# Altium footprint library Package_DIP.PcbLib: 281 footprints (part 5 of 18)
Each footprint in its own frame and in the unit in brackets; x right, y up, seen from the top. Pads: shape width x height; smd on the part's side, far side on the other; paste and mask are expansions set on the pad; w line width, h text height; cw(c..) or ccw(c..) is an arc to the next point about the centre after c.
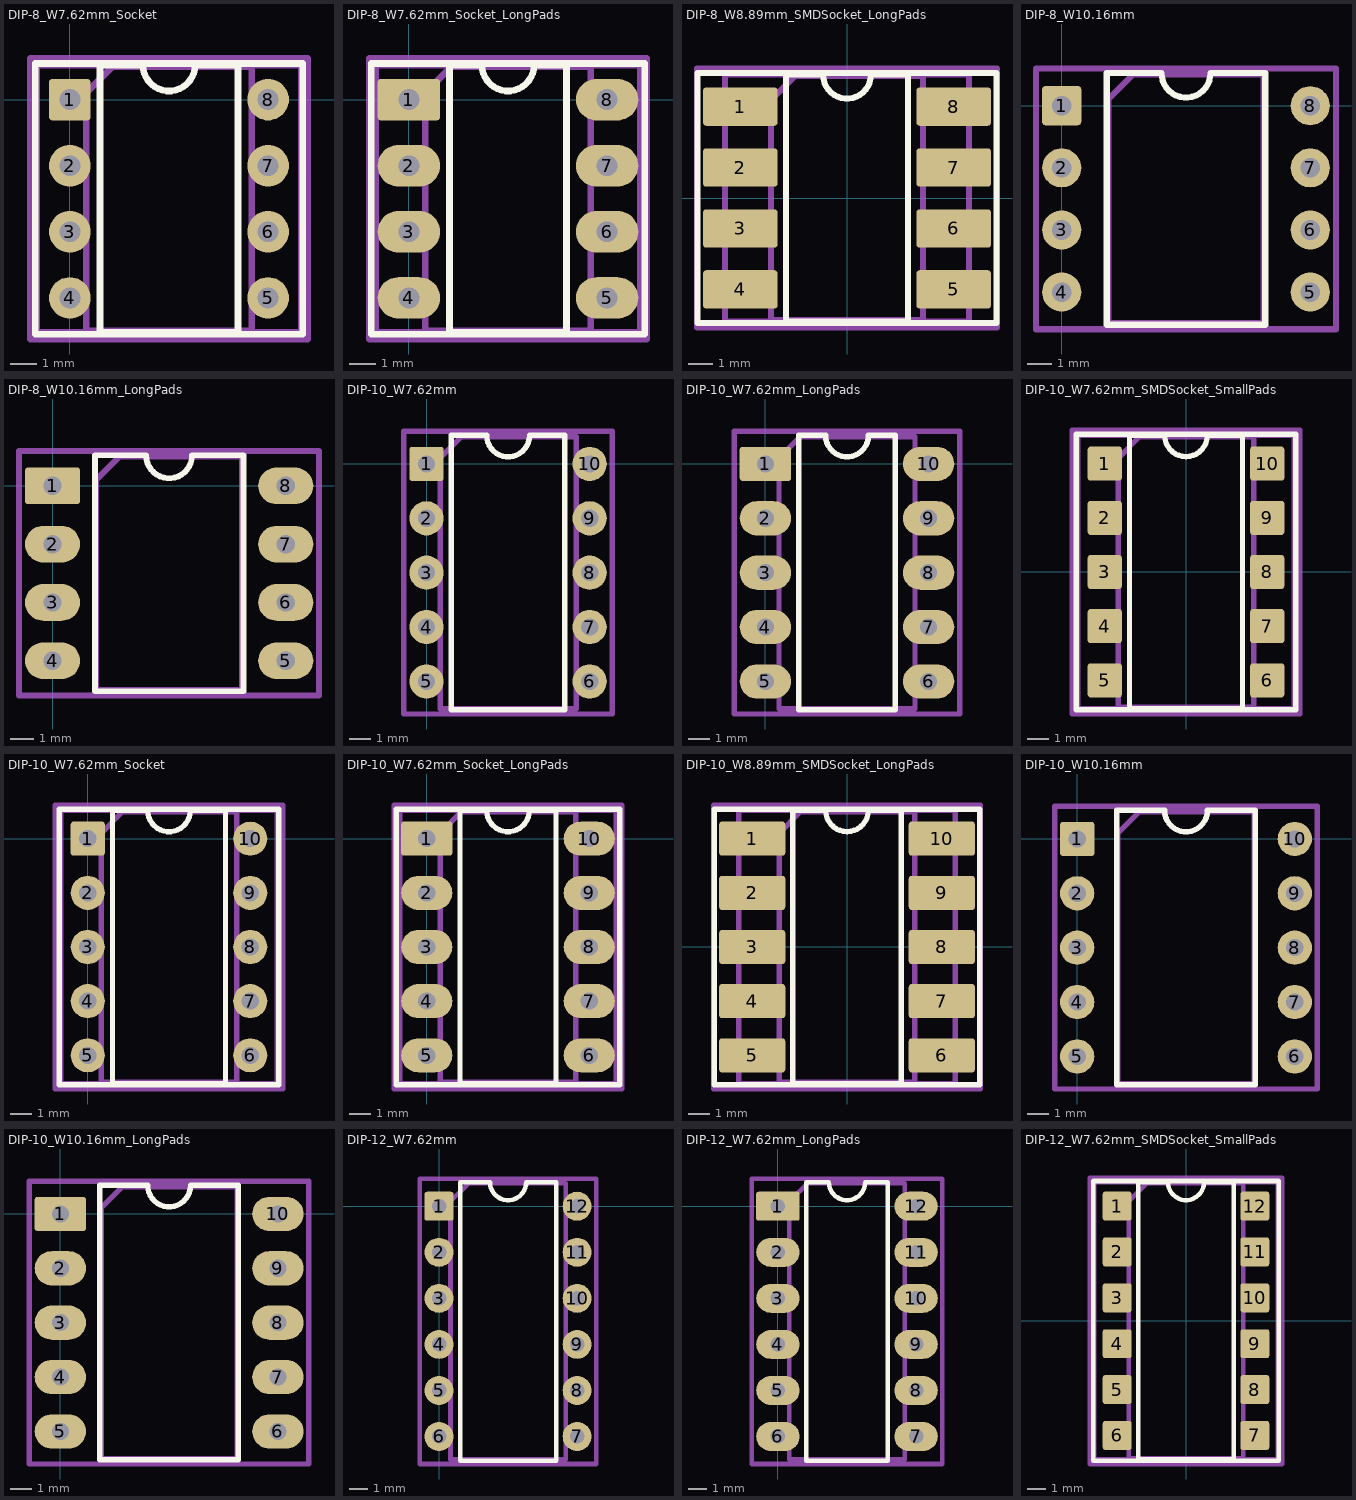
[diagram p4: the footprints below, top view; thin cyan lines are the x and y axes]

## DIP-8_W7.62mm_Socket [mm]
pads (8):
  rrect16% 1.6x1.6 hole 0.8: 1(0,0)
  round 1.6 hole 0.8: 2(0,-2.54) 3(0,-5.08) 4(0,-7.62) 5(7.62,-7.62) 6(7.62,-5.08) 7(7.62,-2.54) 8(7.62,0)
F.SilkS:
  lines w0.254: -1.33,-9.01 8.95,-9.01 8.95,1.39 -1.33,1.39 -1.33,-9.01 ; 1.16,-8.95 6.46,-8.95 6.46,1.33 4.81,1.33 cw(c3.81,1.33) 2.81,1.33 1.16,1.33 1.16,-8.95
Top Assembly:
  lines w0.254: -1.27,-8.95 8.89,-8.95 8.89,1.33 -1.27,1.33 -1.27,-8.95 ; 0.635,-8.89 6.985,-8.89 6.985,1.27 1.635,1.27 0.635,0.27 0.635,-8.89
  text "'.Designator'" at 4.65,-7.857 h1
Top Courtyard:
  lines w0.254: -1.52,-9.2 9.14,-9.2 9.14,1.58 -1.52,1.58 -1.52,-9.2
Top Designator:
  text ".Designator" at -3.808,-4.318 h1.52

## DIP-8_W7.62mm_Socket_LongPads [mm]
pads (8):
  rrect16% 2.4x1.6 hole 0.8: 1(0,0)
  rrect100% 2.4x1.6 hole 0.8: 2(0,-2.54) 3(0,-5.08) 4(0,-7.62) 5(7.62,-7.62) 6(7.62,-5.08) 7(7.62,-2.54) 8(7.62,0)
F.SilkS:
  lines w0.254: -1.44,-9.01 9.06,-9.01 9.06,1.39 -1.44,1.39 -1.44,-9.01 ; 1.56,-8.95 6.06,-8.95 6.06,1.33 4.81,1.33 cw(c3.81,1.33) 2.81,1.33 1.56,1.33 1.56,-8.95
Top Assembly:
  lines w0.254: -1.27,-8.95 8.89,-8.95 8.89,1.33 -1.27,1.33 -1.27,-8.95 ; 0.635,-8.89 6.985,-8.89 6.985,1.27 1.635,1.27 0.635,0.27 0.635,-8.89
  text "'.Designator'" at 4.65,-7.857 h1
Top Courtyard:
  lines w0.254: -1.52,-9.2 9.14,-9.2 9.14,1.58 -1.52,1.58 -1.52,-9.2
Top Designator:
  text ".Designator" at -3.808,-4.318 h1.52

## DIP-8_W8.89mm_SMDSocket_LongPads [mm]
pads (8):
  rrect16% 3.1x1.6 smd: 1(-4.445,3.81) 2(-4.445,1.27) 3(-4.445,-1.27) 4(-4.445,-3.81) 5(4.445,-3.81) 6(4.445,-1.27) 7(4.445,1.27) 8(4.445,3.81)
F.SilkS:
  lines w0.254: -6.235,-5.2 6.235,-5.2 6.235,5.2 -6.235,5.2 -6.235,-5.2 ; -2.535,-5.14 2.535,-5.14 2.535,5.14 1,5.14 cw(c0,5.14) -1,5.14 -2.535,5.14 -2.535,-5.14
Top Assembly:
  lines w0.254: -5.08,-5.14 5.08,-5.14 5.08,5.14 -5.08,5.14 -5.08,-5.14 ; -3.175,-5.08 3.175,-5.08 3.175,5.08 -2.175,5.08 -3.175,4.08 -3.175,-5.08
  text "'.Designator'" at 0.84,-4.047 h1
Top Courtyard:
  lines w0.254: -6.25,-5.39 6.25,-5.39 6.25,5.39 -6.25,5.39 -6.25,-5.39
Top Designator:
  text ".Designator" at -7.618,-0.508 h1.52

## DIP-8_W10.16mm [mm]
pads (8):
  rrect16% 1.6x1.6 hole 0.8: 1(0,0)
  round 1.6 hole 0.8: 2(0,-2.54) 3(0,-5.08) 4(0,-7.62) 5(10.16,-7.62) 6(10.16,-5.08) 7(10.16,-2.54) 8(10.16,0)
F.SilkS:
  lines w0.254: 1.845,-8.95 8.315,-8.95 8.315,1.33 6.08,1.33 cw(c5.08,1.33) 4.08,1.33 1.845,1.33 1.845,-8.95
Top Assembly:
  lines w0.254: 1.905,-8.89 8.255,-8.89 8.255,1.27 2.905,1.27 1.905,0.27 1.905,-8.89
  text "'.Designator'" at 5.92,-7.857 h1
Top Courtyard:
  lines w0.254: -1.05,-9.14 11.21,-9.14 11.21,1.52 -1.05,1.52 -1.05,-9.14
Top Designator:
  text ".Designator" at -2.538,-4.318 h1.52

## DIP-8_W10.16mm_LongPads [mm]
pads (8):
  rrect16% 2.4x1.6 hole 0.8: 1(0,0)
  rrect100% 2.4x1.6 hole 0.8: 2(0,-2.54) 3(0,-5.08) 4(0,-7.62) 5(10.16,-7.62) 6(10.16,-5.08) 7(10.16,-2.54) 8(10.16,0)
F.SilkS:
  lines w0.254: 1.845,-8.95 8.315,-8.95 8.315,1.33 6.08,1.33 cw(c5.08,1.33) 4.08,1.33 1.845,1.33 1.845,-8.95
Top Assembly:
  lines w0.254: 1.905,-8.89 8.255,-8.89 8.255,1.27 2.905,1.27 1.905,0.27 1.905,-8.89
  text "'.Designator'" at 5.92,-7.857 h1
Top Courtyard:
  lines w0.254: -1.46,-9.14 11.61,-9.14 11.61,1.52 -1.46,1.52 -1.46,-9.14
Top Designator:
  text ".Designator" at -2.543,-4.318 h1.52

## DIP-10_W7.62mm [mm]
pads (10):
  rrect16% 1.6x1.6 hole 0.8: 1(0,0)
  round 1.6 hole 0.8: 2(0,-2.54) 3(0,-5.08) 4(0,-7.62) 5(0,-10.16) 6(7.62,-10.16) 7(7.62,-7.62) 8(7.62,-5.08) 9(7.62,-2.54) 10(7.62,0)
F.SilkS:
  lines w0.254: 1.16,-11.49 6.46,-11.49 6.46,1.33 4.81,1.33 cw(c3.81,1.33) 2.81,1.33 1.16,1.33 1.16,-11.49
Top Assembly:
  lines w0.254: 0.635,-11.43 6.985,-11.43 6.985,1.27 1.635,1.27 0.635,0.27 0.635,-11.43
  text "'.Designator'" at 4.65,-9.127 h1
Top Courtyard:
  lines w0.254: -1.06,-11.68 8.67,-11.68 8.67,1.52 -1.06,1.52 -1.06,-11.68
Top Designator:
  text ".Designator" at -3.813,-5.588 h1.52

## DIP-10_W7.62mm_LongPads [mm]
pads (10):
  rrect16% 2.4x1.6 hole 0.8: 1(0,0)
  rrect100% 2.4x1.6 hole 0.8: 2(0,-2.54) 3(0,-5.08) 4(0,-7.62) 5(0,-10.16) 6(7.62,-10.16) 7(7.62,-7.62) 8(7.62,-5.08) 9(7.62,-2.54) 10(7.62,0)
F.SilkS:
  lines w0.254: 1.56,-11.49 6.06,-11.49 6.06,1.33 4.81,1.33 cw(c3.81,1.33) 2.81,1.33 1.56,1.33 1.56,-11.49
Top Assembly:
  lines w0.254: 0.635,-11.43 6.985,-11.43 6.985,1.27 1.635,1.27 0.635,0.27 0.635,-11.43
  text "'.Designator'" at 4.65,-9.127 h1
Top Courtyard:
  lines w0.254: -1.45,-11.68 9.07,-11.68 9.07,1.52 -1.45,1.52 -1.45,-11.68
Top Designator:
  text ".Designator" at -3.808,-5.588 h1.52

## DIP-10_W7.62mm_SMDSocket_SmallPads [mm]
pads (10):
  rrect16% 1.6x1.6 smd: 1(-3.81,5.08) 2(-3.81,2.54) 3(-3.81,0) 4(-3.81,-2.54) 5(-3.81,-5.08) 6(3.81,-5.08) 7(3.81,-2.54) 8(3.81,0) 9(3.81,2.54) 10(3.81,5.08)
F.SilkS:
  lines w0.254: -5.14,-6.47 5.14,-6.47 5.14,6.47 -5.14,6.47 -5.14,-6.47 ; -2.65,-6.41 2.65,-6.41 2.65,6.41 1,6.41 cw(c0,6.41) -1,6.41 -2.65,6.41 -2.65,-6.41
Top Assembly:
  lines w0.254: -5.08,-6.41 5.08,-6.41 5.08,6.41 -5.08,6.41 -5.08,-6.41 ; -3.175,-6.35 3.175,-6.35 3.175,6.35 -2.175,6.35 -3.175,5.35 -3.175,-6.35
  text "'.Designator'" at 0.84,-4.047 h1
Top Courtyard:
  lines w0.254: -5.33,-6.66 5.33,-6.66 5.33,6.66 -5.33,6.66 -5.33,-6.66
Top Designator:
  text ".Designator" at -7.618,-0.508 h1.52

## DIP-10_W7.62mm_Socket [mm]
pads (10):
  rrect16% 1.6x1.6 hole 0.8: 1(0,0)
  round 1.6 hole 0.8: 2(0,-2.54) 3(0,-5.08) 4(0,-7.62) 5(0,-10.16) 6(7.62,-10.16) 7(7.62,-7.62) 8(7.62,-5.08) 9(7.62,-2.54) 10(7.62,0)
F.SilkS:
  lines w0.254: -1.33,-11.55 8.95,-11.55 8.95,1.39 -1.33,1.39 -1.33,-11.55 ; 1.16,-11.49 6.46,-11.49 6.46,1.33 4.81,1.33 cw(c3.81,1.33) 2.81,1.33 1.16,1.33 1.16,-11.49
Top Assembly:
  lines w0.254: -1.27,-11.49 8.89,-11.49 8.89,1.33 -1.27,1.33 -1.27,-11.49 ; 0.635,-11.43 6.985,-11.43 6.985,1.27 1.635,1.27 0.635,0.27 0.635,-11.43
  text "'.Designator'" at 4.65,-9.127 h1
Top Courtyard:
  lines w0.254: -1.52,-11.74 9.14,-11.74 9.14,1.58 -1.52,1.58 -1.52,-11.74
Top Designator:
  text ".Designator" at -3.808,-5.588 h1.52

## DIP-10_W7.62mm_Socket_LongPads [mm]
pads (10):
  rrect16% 2.4x1.6 hole 0.8: 1(0,0)
  rrect100% 2.4x1.6 hole 0.8: 2(0,-2.54) 3(0,-5.08) 4(0,-7.62) 5(0,-10.16) 6(7.62,-10.16) 7(7.62,-7.62) 8(7.62,-5.08) 9(7.62,-2.54) 10(7.62,0)
F.SilkS:
  lines w0.254: -1.44,-11.55 9.06,-11.55 9.06,1.39 -1.44,1.39 -1.44,-11.55 ; 1.56,-11.49 6.06,-11.49 6.06,1.33 4.81,1.33 cw(c3.81,1.33) 2.81,1.33 1.56,1.33 1.56,-11.49
Top Assembly:
  lines w0.254: -1.27,-11.49 8.89,-11.49 8.89,1.33 -1.27,1.33 -1.27,-11.49 ; 0.635,-11.43 6.985,-11.43 6.985,1.27 1.635,1.27 0.635,0.27 0.635,-11.43
  text "'.Designator'" at 4.65,-9.127 h1
Top Courtyard:
  lines w0.254: -1.52,-11.74 9.14,-11.74 9.14,1.58 -1.52,1.58 -1.52,-11.74
Top Designator:
  text ".Designator" at -3.808,-5.588 h1.52

## DIP-10_W8.89mm_SMDSocket_LongPads [mm]
pads (10):
  rrect16% 3.1x1.6 smd: 1(-4.445,5.08) 2(-4.445,2.54) 3(-4.445,0) 4(-4.445,-2.54) 5(-4.445,-5.08) 6(4.445,-5.08) 7(4.445,-2.54) 8(4.445,0) 9(4.445,2.54) 10(4.445,5.08)
F.SilkS:
  lines w0.254: -6.235,-6.47 6.235,-6.47 6.235,6.47 -6.235,6.47 -6.235,-6.47 ; -2.535,-6.41 2.535,-6.41 2.535,6.41 1,6.41 cw(c0,6.41) -1,6.41 -2.535,6.41 -2.535,-6.41
Top Assembly:
  lines w0.254: -5.08,-6.41 5.08,-6.41 5.08,6.41 -5.08,6.41 -5.08,-6.41 ; -3.175,-6.35 3.175,-6.35 3.175,6.35 -2.175,6.35 -3.175,5.35 -3.175,-6.35
  text "'.Designator'" at 0.84,-4.047 h1
Top Courtyard:
  lines w0.254: -6.25,-6.66 6.25,-6.66 6.25,6.66 -6.25,6.66 -6.25,-6.66
Top Designator:
  text ".Designator" at -7.618,-0.508 h1.52

## DIP-10_W10.16mm [mm]
pads (10):
  rrect16% 1.6x1.6 hole 0.8: 1(0,0)
  round 1.6 hole 0.8: 2(0,-2.54) 3(0,-5.08) 4(0,-7.62) 5(0,-10.16) 6(10.16,-10.16) 7(10.16,-7.62) 8(10.16,-5.08) 9(10.16,-2.54) 10(10.16,0)
F.SilkS:
  lines w0.254: 1.845,-11.49 8.315,-11.49 8.315,1.33 6.08,1.33 cw(c5.08,1.33) 4.08,1.33 1.845,1.33 1.845,-11.49
Top Assembly:
  lines w0.254: 1.905,-11.43 8.255,-11.43 8.255,1.27 2.905,1.27 1.905,0.27 1.905,-11.43
  text "'.Designator'" at 5.92,-9.127 h1
Top Courtyard:
  lines w0.254: -1.05,-11.68 11.21,-11.68 11.21,1.52 -1.05,1.52 -1.05,-11.68
Top Designator:
  text ".Designator" at -2.538,-5.588 h1.52

## DIP-10_W10.16mm_LongPads [mm]
pads (10):
  rrect16% 2.4x1.6 hole 0.8: 1(0,0)
  rrect100% 2.4x1.6 hole 0.8: 2(0,-2.54) 3(0,-5.08) 4(0,-7.62) 5(0,-10.16) 6(10.16,-10.16) 7(10.16,-7.62) 8(10.16,-5.08) 9(10.16,-2.54) 10(10.16,0)
F.SilkS:
  lines w0.254: 1.845,-11.49 8.315,-11.49 8.315,1.33 6.08,1.33 cw(c5.08,1.33) 4.08,1.33 1.845,1.33 1.845,-11.49
Top Assembly:
  lines w0.254: 1.905,-11.43 8.255,-11.43 8.255,1.27 2.905,1.27 1.905,0.27 1.905,-11.43
  text "'.Designator'" at 5.92,-9.127 h1
Top Courtyard:
  lines w0.254: -1.46,-11.68 11.61,-11.68 11.61,1.52 -1.46,1.52 -1.46,-11.68
Top Designator:
  text ".Designator" at -2.543,-5.588 h1.52

## DIP-12_W7.62mm [mm]
pads (12):
  rrect16% 1.6x1.6 hole 0.8: 1(0,0)
  round 1.6 hole 0.8: 2(0,-2.54) 3(0,-5.08) 4(0,-7.62) 5(0,-10.16) 6(0,-12.7) 7(7.62,-12.7) 8(7.62,-10.16) 9(7.62,-7.62) 10(7.62,-5.08) 11(7.62,-2.54) 12(7.62,0)
F.SilkS:
  lines w0.254: 1.16,-14.03 6.46,-14.03 6.46,1.33 4.81,1.33 cw(c3.81,1.33) 2.81,1.33 1.16,1.33 1.16,-14.03
Top Assembly:
  lines w0.254: 0.635,-13.97 6.985,-13.97 6.985,1.27 1.635,1.27 0.635,0.27 0.635,-13.97
  text "'.Designator'" at 4.65,-10.397 h1
Top Courtyard:
  lines w0.254: -1.06,-14.22 8.67,-14.22 8.67,1.52 -1.06,1.52 -1.06,-14.22
Top Designator:
  text ".Designator" at -3.813,-6.858 h1.52

## DIP-12_W7.62mm_LongPads [mm]
pads (12):
  rrect16% 2.4x1.6 hole 0.8: 1(0,0)
  rrect100% 2.4x1.6 hole 0.8: 2(0,-2.54) 3(0,-5.08) 4(0,-7.62) 5(0,-10.16) 6(0,-12.7) 7(7.62,-12.7) 8(7.62,-10.16) 9(7.62,-7.62) 10(7.62,-5.08) 11(7.62,-2.54) 12(7.62,0)
F.SilkS:
  lines w0.254: 1.56,-14.03 6.06,-14.03 6.06,1.33 4.81,1.33 cw(c3.81,1.33) 2.81,1.33 1.56,1.33 1.56,-14.03
Top Assembly:
  lines w0.254: 0.635,-13.97 6.985,-13.97 6.985,1.27 1.635,1.27 0.635,0.27 0.635,-13.97
  text "'.Designator'" at 4.65,-10.397 h1
Top Courtyard:
  lines w0.254: -1.45,-14.22 9.07,-14.22 9.07,1.52 -1.45,1.52 -1.45,-14.22
Top Designator:
  text ".Designator" at -3.808,-6.858 h1.52

## DIP-12_W7.62mm_SMDSocket_SmallPads [mm]
pads (12):
  rrect16% 1.6x1.6 smd: 1(-3.81,6.35) 2(-3.81,3.81) 3(-3.81,1.27) 4(-3.81,-1.27) 5(-3.81,-3.81) 6(-3.81,-6.35) 7(3.81,-6.35) 8(3.81,-3.81) 9(3.81,-1.27) 10(3.81,1.27) 11(3.81,3.81) 12(3.81,6.35)
F.SilkS:
  lines w0.254: -5.14,-7.74 5.14,-7.74 5.14,7.74 -5.14,7.74 -5.14,-7.74 ; -2.65,-7.68 2.65,-7.68 2.65,7.68 1,7.68 cw(c0,7.68) -1,7.68 -2.65,7.68 -2.65,-7.68
Top Assembly:
  lines w0.254: -5.08,-7.68 5.08,-7.68 5.08,7.68 -5.08,7.68 -5.08,-7.68 ; -3.175,-7.62 3.175,-7.62 3.175,7.62 -2.175,7.62 -3.175,6.62 -3.175,-7.62
  text "'.Designator'" at 0.84,-4.047 h1
Top Courtyard:
  lines w0.254: -5.33,-7.93 5.33,-7.93 5.33,7.93 -5.33,7.93 -5.33,-7.93
Top Designator:
  text ".Designator" at -7.618,-0.508 h1.52